# EAGLE library part PC99AUDIOV (library xess)
Triiple-stacked PC99 audio connector.
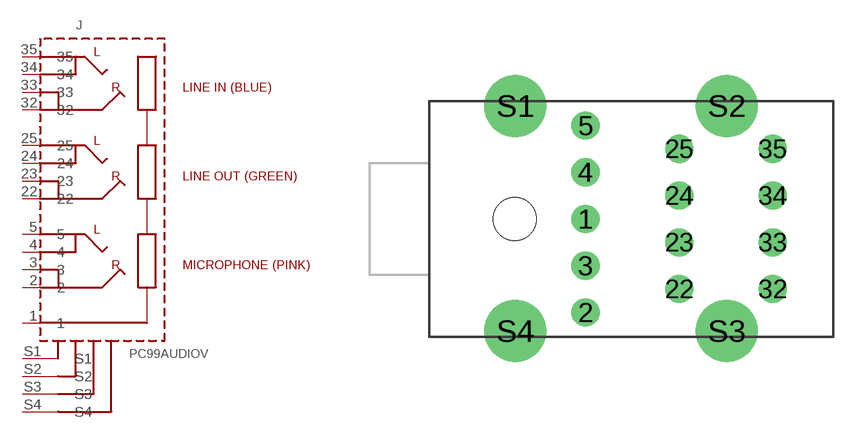
[diagram p28: symbol with the pads of PC99AUDIOV; footprint PC99AUDIOV]

Designator prefix J

## PC99AUDIOV  [PC99AUDIOV]
1  1  pas
2  2  pas
3  3  pas
4  4  pas
5  5  pas
22  22  pas
23  23  pas
24  24  pas
25  25  pas
32  32  pas
33  33  pas
34  34  pas
35  35  pas
S1  S1  pwr
S2  S2  pwr
S3  S3  pwr
S4  S4  pwr

## Footprint PC99AUDIOV (pad centres in mm)
drill 1 round: 1 -0.02,0; 2 -0.02,-5; 3 -0.02,-2.5; 4 -0.02,2.5; 5 -0.02,5; 22 4.98,-3.75; 23 4.98,-1.25; 24 4.98,1.25; 25 4.98,3.75; 32 9.98,-3.75; 33 9.98,-1.25; 34 9.98,1.25; 35 9.98,3.75
drill 2.3 round: S1 -3.77,6.05; S2 7.53,6.05; S3 7.53,-6; S4 -3.77,-6
hole 2.3 at -3.82,0